# Altium footprint library 1722861102.PcbLib: 1 footprints
Each footprint in its own frame and in the unit in brackets; x right, y up, seen from the top. Pads: shape width x height; smd on the part's side, far side on the other; paste and mask are expansions set on the pad; w line width, h text height; cw(c..) or ccw(c..) is an arc to the next point about the centre after c.
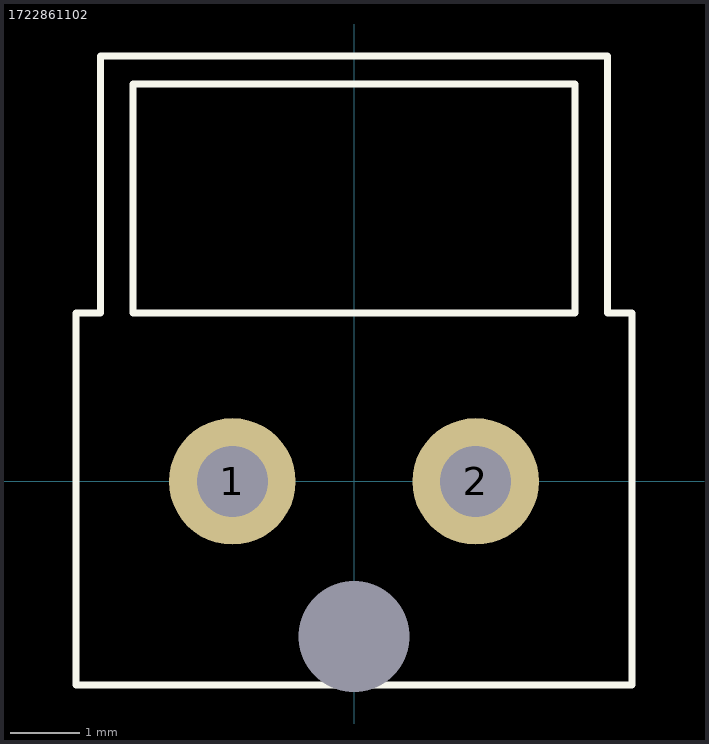
[diagram p0: the footprint, top view; thin cyan lines are the x and y axes]

## 1722861102 [mm]
pads (3):
  round 1.82 hole 1.02: 1(-1.75,0) 2(1.75,0)
  round 0 hole 1.6 unplated: 3(0,-2.23)
Top Overlay:
  lines w0.1: -4,-2.93 -4,2.42 -3.645,2.42 -3.645,6.12 3.645,6.12 3.645,2.42 4,2.42 4,-2.93 -4,-2.93 ; -3.175,2.42 3.175,2.42 3.175,5.715 -3.175,5.715 -3.175,2.42